# Altium footprint library BioZ.PcbLib: 32 footprints (part 1 of 2)
Each footprint in its own frame and in the unit in brackets; x right, y up, seen from the top. Pads: shape width x height; smd on the part's side, far side on the other; paste and mask are expansions set on the pad; w line width, h text height; cw(c..) or ccw(c..) is an arc to the next point about the centre after c.
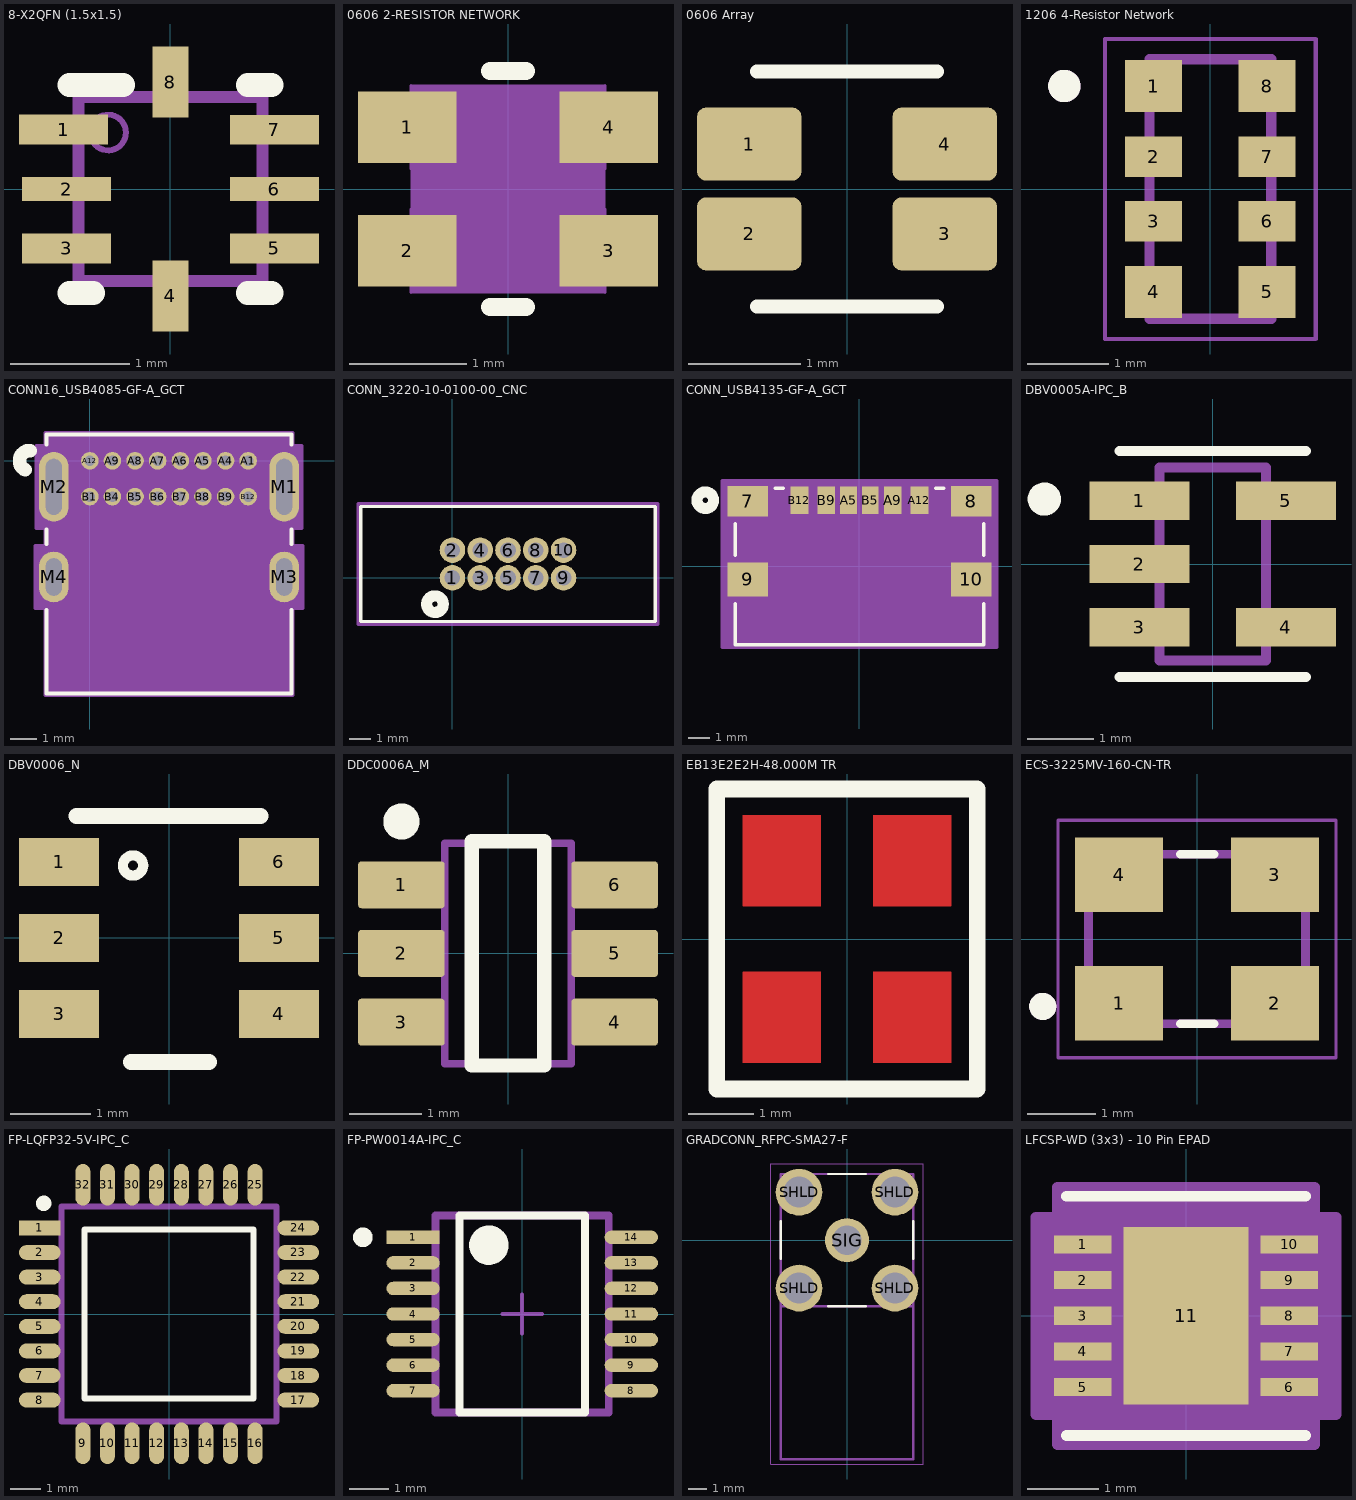
[diagram p0: the footprints below, top view; thin cyan lines are the x and y axes]

## 8-X2QFN (1.5x1.5) [mm]
pads (8):
  rect 0.75x0.25 smd paste+0 mask+0: 1(-0.9,0.5) 3(-0.875,-0.5) 5(0.875,-0.5) 7(0.875,0.5)
  rect 0.75x0.2 smd paste+0 mask+0: 2(-0.875,0) 6(0.875,0)
  rect 0.3x0.6 smd paste+0 mask+0: 4(0,-0.9) 8(0,0.9)
Top Overlay:
  lines w0.2: -0.85,-0.875 -0.65,-0.875 ; -0.85,0.875 -0.4,0.875 ; 0.65,-0.875 0.85,-0.875 ; 0.65,0.875 0.85,0.875
Mechanical 13:
  circle w0.05: c-0.525,0.475 r0.15
  lines w0.1: -0.775,-0.775 -0.775,0.775 0.775,0.775 0.775,-0.775 -0.775,-0.775
3D body "RUG0008A.stp": height 0.4, standoff 0, extent -0.75,-0.75 0.75,0.75

## 0606 2-RESISTOR NETWORK [mm]
pads (4):
  rect 0.837x0.611 smd paste+0 mask+0: 1(-0.857,0.525) 2(-0.857,-0.525) 3(0.857,-0.525) 4(0.857,0.525)
Top Overlay:
  lines w0.152: -0.154,-1.003 0.154,-1.003 ; -0.154,1.003 0.154,1.003
Mechanical 13:
  lines w0.025: -0.826,-0.881 -0.826,-0.876 0.826,-0.876 0.826,-0.881 0.826,-0.169 cw(c0.826,0) 0.826,0.169 0.826,0.881 0.826,0.876 -0.826,0.876 -0.826,0.881 -0.826,0.169 cw(c-0.826,0) -0.826,-0.169 -0.826,-0.881
Mechanical 15:
  region: 0.826,-0.876 -0.826,-0.876 -0.826,0.876 0.826,0.876
3D body "SMT_1002P1AT_VIS.step": height 0.56, standoff 0, extent -0.826,-0.881 0.826,0.881

## 0606 Array [mm]
pads (4):
  rrect25% 0.93x0.65 smd: 1(-0.87,0.4) 2(-0.87,-0.4) 3(0.87,-0.4) 4(0.87,0.4)
Top Overlay:
  lines w0.127: -0.8,-1.045 0.8,-1.045 ; -0.8,1.045 0.8,1.045

## 1206 4-Resistor Network [mm]
height 0.55
pads (8):
  rect 0.7x0.64 smd: 1(-0.7,1.27) 4(-0.7,-1.27) 5(0.7,-1.27) 8(0.7,1.27)
  rect 0.7x0.5 smd: 2(-0.7,0.4) 3(-0.7,-0.4) 6(0.7,-0.4) 7(0.7,0.4)
Top Overlay:
  circle w0.2: c-1.8,1.27 r0.1
Mechanical 13:
  circle w0.2: c-1.8,1.27 r0.1
  lines w0.127: -0.75,-1.6 -0.75,1.6 0.75,1.6 0.75,-1.6 -0.75,-1.6
Mechanical 15:
  lines w0.05: -1.3,-1.85 -1.3,1.85 1.3,1.85 1.3,-1.85 -1.3,-1.85
3D body "ACASA1002S1002P1AT.STEP": height 0.55, standoff 0, extent -0.75,-1.6 0.75,1.6

## CONN16_USB4085-GF-A_GCT [mil]
pads (20):
  round 26 / inner round 60 / far side round 26 hole 16 paste-99999 mask+0: A1(234.25,0) A4(200.79,0) A5(167.32,0) A6(133.86,0) A7(100.39,0) A8(66.93,0) A9(33.46,0) A12(0,0) B1(0,-53.15) B4(33.46,-53.15) B5(66.93,-53.15) B6(100.39,-53.15) B7(133.86,-53.15) B8(167.32,-53.15) B9(200.79,-53.15) B12(234.25,-53.15)
  oval 44x103 / inner round 60 / far side oval 44x103 hole 23.62 slot 82.68 at 90 deg paste-99999 mask+0: M1(287.4,-38.58) M2(-53.15,-38.58)
  oval 44x75 / inner round 60 / far side oval 44x75 hole 23.62 slot 55.12 at 90 deg paste-99999 mask+0: M3(287.4,-171.85) M4(-53.15,-171.85)
Top Overlay:
  lines w6: -63.87,-220.77 -63.87,-344.14 298.13,-344.14 298.13,-220.77 ; -63.87,-122.93 -63.87,-101.5 ; -63.87,24.34 -63.87,38.86 298.13,38.86 298.13,24.34 ; 298.13,-122.93 298.13,-101.5
  lines w20: -95.25,-13.58 cw(c-88.87,0) -87.71,14.95
Bottom Overlay:
  circle w20: c-88.87,0 r15
Mechanical 13:
  lines w1: -58.87,-339.14 -58.87,33.86 293.13,33.86 293.13,-339.14 -58.87,-339.14
Mechanical 15:
  region: -65.74,-217.98 -65.74,-346.41 299.99,-346.41 299.99,-217.98 314.46,-217.98 314.46,-125.73 299.99,-125.73 299.99,-99.28 313.33,-99.28 313.33,22.11 299.99,22.11 299.99,41.13 -65.74,41.13 -65.74,22.11 -79.08,22.11 -79.08,-99.28 -65.74,-99.28 -65.74,-125.73 -80.21,-125.73 -80.21,-217.98
  lines w6: -80.21,-217.98 -80.21,-125.73 -65.74,-125.73 -65.74,-99.28 -79.08,-99.28 -79.08,22.11 -65.74,22.11 -65.74,41.13 299.99,41.13 299.99,22.11 313.33,22.11 313.33,-99.28 299.99,-99.28 299.99,-125.73 314.46,-125.73 314.46,-217.98 299.99,-217.98 299.99,-346.41 -65.74,-346.41 -65.74,-217.98 -80.21,-217.98
3D body "usb4085-gf-a.stp": height 136.22, standoff -82.68, extent -59.06,-341.93 292.91,19.09

## CONN_3220-10-0100-00_CNC [mil]
pads (10):
  round 46 / inner round 60 / far side round 46 hole 28 paste-99999 mask+0: 1(0,0) 2(0,50) 3(50,0) 4(50,50) 5(100,0) 6(100,50) 7(150,0) 8(150,50) 9(200,0) 10(200,50)
Top Overlay:
  circle w20: c-31.5,-47.24 r15
  lines w6: -165,-78.5 365,-78.5 365,128.5 -165,128.5 -165,-78.5
Bottom Overlay:
  circle w20: c-31.5,-47.24 r15
Mechanical 15:
  lines w6: -170,-83.5 -170,133.5 370,133.5 370,-83.5 -170,-83.5
3D body "3220-10-0100-00.STEP": height 212.6, standoff -82.68, extent -149.61,-72.83 348.43,127.95

## CONN_USB4135-GF-A_GCT [mil]
pads (10):
  rect 73x55 smd paste+0 mask+0: 7(-201.77,117.49) 8(201.77,117.49)
  rect 73x61 smd paste+0 mask+0: 9(-201.77,-23.45) 10(201.77,-23.45)
  rect 30x49 smd paste+0 mask+0: A5(-19.68,119.61) B5(19.68,119.61)
  rect 32x49 smd paste+0 mask+0: A9(59.84,119.61) B9(-59.84,119.61)
  rect 33x49 smd paste+0 mask+0: A12(108.27,119.61) B12(-108.27,119.61)
Top Overlay:
  circle w20: c-278.27,119.61 r15
  lines w6: -224.5,-67.05 -224.5,-141 224.5,-141 224.5,-67.05 ; -224.5,20.15 -224.5,76.89 ; -152.17,141 -137.87,141 ; 137.87,141 152.17,141 ; 224.5,20.15 224.5,76.89
Bottom Overlay:
  circle w20: c-278.27,119.61 r15
Mechanical 13:
  circle w20: c-19.68,119.61 r15
  lines w1: -219.5,-136 -219.5,136 219.5,136 219.5,-136 -219.5,-136
Mechanical 15:
  region: 248.27,154.99 -248.27,154.99 -248.27,-146 248.27,-146
  lines w6: -248.27,-146 248.27,-146 248.27,154.99 -248.27,154.99 -248.27,-146
3D body "usb4135-gf-a.stp": height 127.36, standoff -0.59, extent -224.29,-131.65 214.29,140

## DBV0005A-IPC_B [mm]
pads (5):
  rect 1.505x0.572 smd paste+0 mask+0: 1(-1.1,0.95) 2(-1.1,0) 3(-1.1,-0.95) 4(1.1,-0.95) 5(1.1,0.95)
Top Overlay:
  circle w0.25: c-2.528,0.975 r0.125
  lines w0.15: -1.4,-1.7 1.4,-1.7 ; -1.4,1.7 1.4,1.7
Mechanical 13:
  lines w0.15: -0.8,-1.45 -0.8,1.45 0.8,1.45 0.8,-1.45 -0.8,-1.45
3D body "DBV0005A.stp": height 1.2, standoff 0, extent -1.4,-1.45 1.4,1.45

## DBV0006_N [mm]
pads (6):
  rect 1x0.6 smd paste+0 mask+0: 1(-1.375,0.95) 2(-1.375,0) 3(-1.375,-0.95) 4(1.375,-0.95) 5(1.375,0) 6(1.375,0.95)
Top Overlay:
  lines w0.127: -0.577,0.906 ccw(c-0.45,0.906) -0.323,0.906 ccw(c-0.45,0.906) -0.577,0.906
  lines w0.2: -1.159,1.524 1.143,1.524 ; -0.475,-1.55 0.5,-1.55
3D body "DBV0006A.stp": height 1.2, standoff 0, extent -1.4,-1.45 1.4,1.45

## DDC0006A_M [mm]
pads (6):
  rrect15% 1.2x0.65 smd: 1(-1.475,0.95) 2(-1.475,0) 3(-1.475,-0.95) 4(1.475,-0.95) 5(1.475,0) 6(1.475,0.95)
Top Overlay:
  circle w0.25: c-1.475,1.825 r0.125
  lines w0.2: -0.5,-1.55 0.5,-1.55 0.5,1.55 -0.5,1.55 -0.5,-1.55
Mechanical 13:
  lines w0.1: -0.875,-1.525 -0.875,1.525 0.875,1.525 0.875,-1.525 -0.875,-1.525
3D body "DDC0006A.stp": height 0.9, standoff -0.02, extent -1.434,-1.485 1.434,1.485

## EB13E2E2H-48.000M TR [mm]
Top Layer:
  region: -1.6,0.5 -0.4,0.5 -0.4,1.9 -1.6,1.9
  region: -1.6,-1.9 -0.4,-1.9 -0.4,-0.5 -1.6,-0.5
  region: 0.4,-1.9 1.6,-1.9 1.6,-0.5 0.4,-0.5
  region: 0.4,0.5 1.6,0.5 1.6,1.9 0.4,1.9
Top Overlay:
  lines w0.254: -2,-2.3 2,-2.3 2,2.3 -2,2.3 -2,-2.3
3D body "ASEK.STEP": height 1.2, standoff 0, extent -1.25,-1.5 1.25,1.7

## ECS-3225MV-160-CN-TR [mm]
pads (4):
  rect 1.3x1.1 smd paste+0 mask+0.102: 1(-1.15,-0.95) 2(1.15,-0.95) 3(1.15,0.95) 4(-1.15,0.95)
Top Overlay:
  circle w0.2: c-2.275,-0.994 r0.1
  lines w0.127: -0.25,-1.25 0.25,-1.25 ; -0.25,1.25 0.25,1.25
Mechanical 13:
  circle w0.2: c-2.275,-0.994 r0.1
  lines w0.127: -1.6,-1.25 1.6,-1.25 1.6,1.25 -1.6,1.25 -1.6,-1.25
Mechanical 15:
  lines w0.05: -2.05,-1.75 -2.05,1.75 2.05,1.75 2.05,-1.75 -2.05,-1.75
3D body "step_temp.STEP": height 1.2, standoff 0, extent -1.6,-1.25 1.6,1.25

## FP-LQFP32-5V-IPC_C [mm]
pads (32):
  rect 1.355x0.486 smd paste+0 mask+0: 1(-4.2,2.8)
  rrect100% 1.355x0.486 smd paste+0 mask+0: 2(-4.2,2) 3(-4.2,1.2) 4(-4.2,0.4) 5(-4.2,-0.4) 6(-4.2,-1.2) 7(-4.2,-2) 8(-4.2,-2.8) 17(4.2,-2.8) 18(4.2,-2) 19(4.2,-1.2) 20(4.2,-0.4) 21(4.2,0.4) 22(4.2,1.2) 23(4.2,2) 24(4.2,2.8)
  rrect100% 0.486x1.355 smd paste+0 mask+0: 9(-2.8,-4.2) 10(-2,-4.2) 11(-1.2,-4.2) 12(-0.4,-4.2) 13(0.4,-4.2) 14(1.2,-4.2) 15(2,-4.2) 16(2.8,-4.2) 25(2.8,4.2) 26(2,4.2) 27(1.2,4.2) 28(0.4,4.2) 29(-0.4,4.2) 30(-1.2,4.2) 31(-2,4.2) 32(-2.8,4.2)
Top Overlay:
  circle w0.25: c-4.075,3.6 r0.125
  lines w0.2: -2.75,-2.75 -2.75,2.75 2.75,2.75 2.75,-2.75 -2.75,-2.75
Top 3D Body:
  lines w0.2: -3.5,-3.5 -3.5,3.5 3.5,3.5 3.5,-3.5 -3.5,-3.5
3D body "IC_STMicroelectronics_STM32L010K4T6_eec.STEP": height 0.25, standoff 0, extent -4.853,-4.853 4.853,4.853

## FP-PW0014A-IPC_C [mm]
pads (14):
  rect 1.355x0.341 smd paste+0 mask+0: 1(-2.775,1.95)
  rrect100% 1.355x0.341 smd paste+0 mask+0: 2(-2.775,1.3) 3(-2.775,0.65) 4(-2.775,0) 5(-2.775,-0.65) 6(-2.775,-1.3) 7(-2.775,-1.95) 8(2.775,-1.95) 9(2.775,-1.3) 10(2.775,-0.65) 11(2.775,0) 12(2.775,0.65) 13(2.775,1.3) 14(2.775,1.95)
Top Overlay:
  circle w0.5: c-0.848,1.75 r0.25
  circle w0.25: c-4.05,1.95 r0.125
  lines w0.2: -1.598,-2.5 1.598,-2.5 1.598,2.5 -1.598,2.5 -1.598,-2.5
Top 3D Body:
  lines w0.2: -2.2,-2.5 2.2,-2.5 2.2,2.5 -2.2,2.5 -2.2,-2.5
Top Component Center:
  lines w0.1: -0.5,0 0.5,0 ; 0,-0.5 0,0.5
3D body "IC_Texas_Instruments_BQ34110PWR_eec.STEP": height 0.25, standoff 0, extent -3.553,-2.6 3.553,2.6

## GRADCONN_RFPC-SMA27-F [mm]
height 10.3
pads (5):
  round 2.475 hole 1.65: SHLD(-2.54,-2.54) SHLD(-2.54,2.54) SHLD(2.54,-2.54) SHLD(2.54,2.54)
  round 2.325 hole 1.55: SIG(0,0)
Top Overlay:
  lines w0.127: -3.5,-1 -3.5,1 ; -1,-3.5 1,-3.5 ; -1,3.5 1,3.5 ; 3.5,-1 3.5,1
Mechanical 13:
  lines w0.127: -3.5,-3.5 -3.5,-11.6 3.5,-11.6 3.5,-3.5 ; -3.5,-3.5 3.5,-3.5 ; -3.5,-3.5 -3.5,3.5 3.5,3.5 3.5,-3.5
Mechanical 15:
  lines w0.05: -4.03,-11.85 4.03,-11.85 4.03,4.03 -4.03,4.03 -4.03,-11.85
3D body "RFPC-SMA27-F.STEP": height 10, standoff -4, extent -3.5,-11.6 3.5,3.5

## LFCSP-WD (3x3) - 10 Pin EPAD [mm]
pads (11):
  rect 0.808x0.255 smd paste+0 mask+0: 1(-1.445,1) 2(-1.445,0.5) 3(-1.445,0) 4(-1.445,-0.5) 5(-1.445,-1) 6(1.445,-1) 7(1.445,-0.5) 8(1.445,0) 9(1.445,0.5) 10(1.445,1)
  rect 1.753x2.489 smd paste+0 mask+0: 11(0,0)
Top Overlay:
  lines w0.152: -1.676,-1.676 1.676,-1.676 ; -1.676,1.676 1.676,1.676
Mechanical 13:
  lines w0.025: -0.305,1.549 ccw(c0,1.549) 0.305,1.549 ; -1.549,-1.549 1.549,-1.549 1.549,1.549 -1.549,1.549 -1.549,-1.549
Mechanical 15:
  region: -1.803,-1.381 -2.103,-1.381 -2.103,1.381 -1.803,1.381 -1.803,1.803 1.803,1.803 1.803,1.381 2.103,1.381 2.103,-1.381 1.803,-1.381 1.803,-1.803 -1.803,-1.803
  lines w0.152: -2.103,-1.381 -2.103,1.381 -1.803,1.381 -1.803,1.803 1.803,1.803 1.803,1.381 2.103,1.381 2.103,-1.381 1.803,-1.381 1.803,-1.803 -1.803,-1.803 -1.803,-1.381 -2.103,-1.381
3D body "AD9837BCPZ-RL7.step": height 0.79, standoff 0, extent -1.549,-1.549 1.549,1.549
3D body "CP_10_9_ADI.step": height 0.79, standoff 0, extent -1.549,-1.549 1.549,1.549